# Altium schematic symbol library Harry_Potter_Texas_Instruments.SchLib: 3 symbols
Pins are listed as number, name and electrical type; pins without a type are passive.

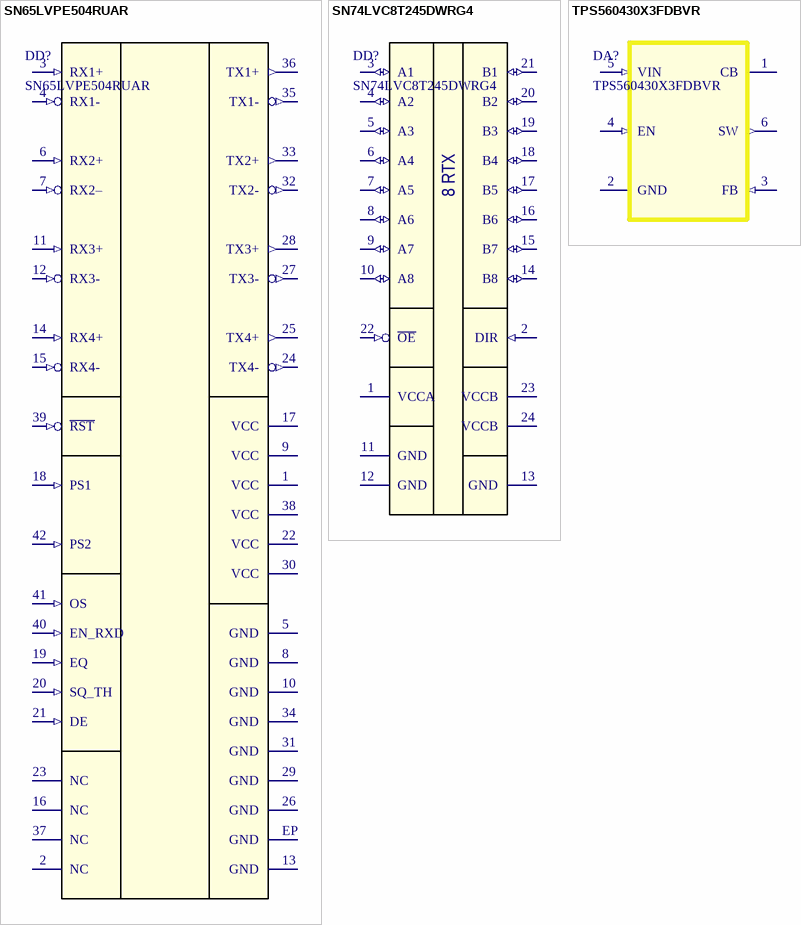
[diagram p0: symbols SN65LVPE504RUAR to TPS560430X3FDBVR]

## SN65LVPE504RUAR
designator DD?
четырехканальный эквалайзер; Manufacturing: Texas Instruments; Op Temp: -40 to 85; Package: WQFN-42; PartNumber: SN65LVPE504RUAR; Device Marking: LVPE504
footprint WQFN-42 (QFN, 42-Leads, Body 3,50x9,00mm, Pitch 0,50mm, Thermal Pad 2,05x7,55mm, IPC Medium Density)
pins: 1 VCC (power), 2 NC (hiz), 3 RX1+ (in), 4 RX1- (in), 5 GND (power), 6 RX2+ (in), 7 RX2– (in), 8 GND (power), 9 VCC (power), 10 GND (power), 11 RX3+ (in), 12 RX3- (in), 13 GND (power), 14 RX4+ (in), 15 RX4- (in), 16 NC (hiz), 17 VCC (power), 18 PS1 (in), 19 EQ (in), 20 SQ_TH (in), 21 DE (in), 22 VCC (power), 23 NC (hiz), 24 TX4- (out), 25 TX4+ (out), 26 GND (power), 27 TX3- (out), 28 TX3+ (out), 29 GND (power), 30 VCC (power), 31 GND (power), 32 TX2- (out), 33 TX2+ (out), 34 GND (power), 35 TX1- (out), 36 TX1+ (out), 37 NC (hiz), 38 VCC (power), 39 ~{RST} (in), 40 EN_RXD (in), 41 OS (in), 42 PS2 (in), EP GND (power)

## SN74LVC8T245DWRG4
designator DD?
8-Bit Dual-Supply Bus Transceiver; Manufacturing: Texas Instruments; Op Temp: -40 to 85; Package: SOIC24; PartNumber: SN74LVC8T245DWRG4; Device Marking: LVC8T245
footprint SOIC24
footprint TSSOP-24 (TSOP, 24-Leads, Body 7,80x4,40mm, Pitch 0,65mm, IPC Medium Density)
pins: 1 VCCA (power), 2 DIR (in), 3 A1 (io), 4 A2 (io), 5 A3 (io), 6 A4 (io), 7 A5 (io), 8 A6 (io), 9 A7 (io), 10 A8 (io), 11 GND (power), 12 GND (power), 13 GND (power), 14 B8 (io), 15 B7 (io), 16 B6 (io), 17 B5 (io), 18 B4 (io), 19 B3 (io), 20 B2 (io), 21 B1 (io), 22 ~{OE} (in), 23 VCCB (power), 24 VCCB (power)
text: 8 RTX

## TPS560430X3FDBVR
designator DA?
импульсный преобразователь; Manufacturing: Texas Instruments; Op Temp: -40 to 125; Package: SOT-23; PartNumber: TPS560430X3FDBVR
footprint SOT-23
footprint SOT-23_V1 (SOT23, 6-Leads, Body 2,90x2,80mm, Pitch 0,95mm, IPC Medium Density)
pins: 1 CB, 2 GND (power), 3 FB (in), 4 EN (in), 5 VIN (in), 6 SW (out)